# Altium footprint library PloyZEN-SMD.PcbLib: 1 footprints
Each footprint in its own frame and in the unit in brackets; x right, y up, seen from the top. Pads: shape width x height; smd on the part's side, far side on the other; paste and mask are expansions set on the pad; w line width, h text height; cw(c..) or ccw(c..) is an arc to the next point about the centre after c.
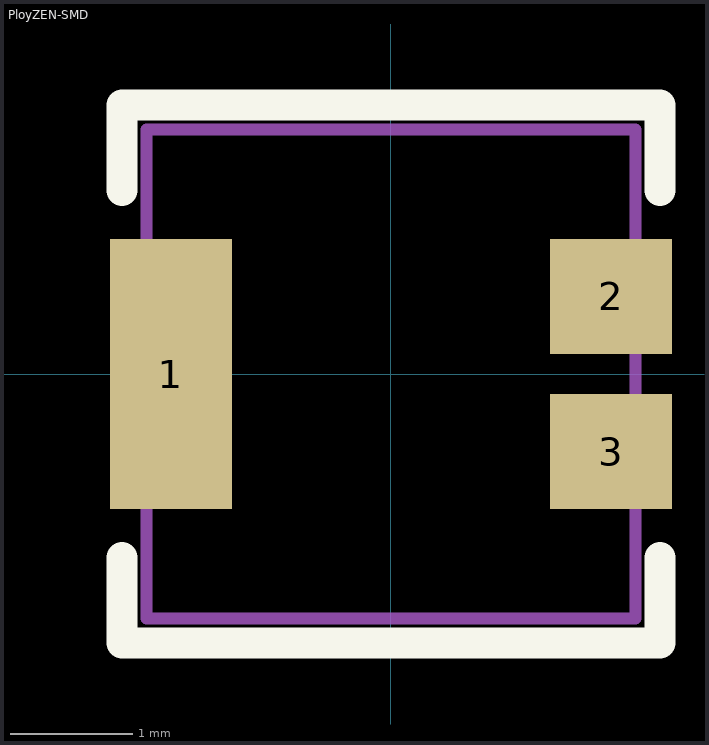
[diagram p0: the footprint, top view; thin cyan lines are the x and y axes]

## PloyZEN-SMD [mm] "Polymer Enhanced Zener Diode"
pads (3):
  rect 1x2.21 smd: 1(-1.8,0)
  rect 1x0.94 smd: 2(1.8,0.635) 3(1.8,-0.635)
Top Overlay:
  lines w0.254: -2.2,-1.5 -2.2,-2.2 2.2,-2.2 2.2,-1.5 ; -2.2,1.5 -2.2,2.2 2.2,2.2 2.2,1.5
Mechanical 13:
  lines w0.1: -2,-2 2,-2 2,2 -2,2 -2,-2